# Altium schematic symbol library conn-ngff_A_E.Schlib: 1 symbol
Pins are listed as number, name and electrical type; pins without a type are passive.

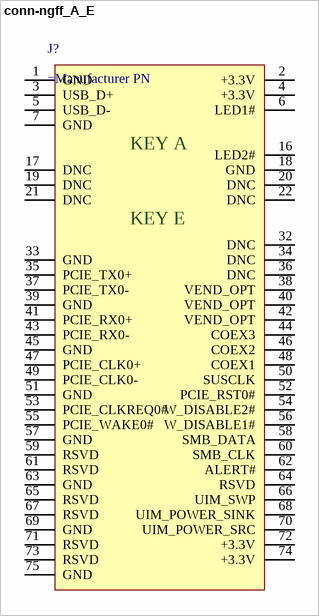
[diagram p0: symbol conn-ngff_A_E]

## conn-ngff_A_E
designator J?
NGFF (M.2) A+E keyed connector
pins: 1 GND, 2 +3.3V, 3 USB_D+, 4 +3.3V, 5 USB_D-, 6 LED1#, 7 GND, 16 LED2#, 17 DNC, 18 GND, 19 DNC, 20 DNC, 21 DNC, 22 DNC, 32 DNC, 33 GND, 34 DNC, 35 PCIE_TX0+, 36 DNC, 37 PCIE_TX0-, 38 VEND_OPT, 39 GND, 40 VEND_OPT, 41 PCIE_RX0+, 42 VEND_OPT, 43 PCIE_RX0-, 44 COEX3, 45 GND, 46 COEX2, 47 PCIE_CLK0+, 48 COEX1, 49 PCIE_CLK0-, 50 SUSCLK, 51 GND, 52 PCIE_RST0#, 53 PCIE_CLKREQ0#, 54 W_DISABLE2#, 55 PCIE_WAKE0#, 56 W_DISABLE1#, 57 GND, 58 SMB_DATA, 59 RSVD, 60 SMB_CLK, 61 RSVD, 62 ALERT#, 63 GND, 64 RSVD, 65 RSVD, 66 UIM_SWP, 67 RSVD, 68 UIM_POWER_SINK, 69 GND, 70 UIM_POWER_SRC, 71 RSVD, 72 +3.3V, 73 RSVD, 74 +3.3V, 75 GND
text: KEY A; KEY E